# Altium integrated library GWLIB.IntLib: 40 symbols
Pins are listed as number, name and electrical type; pins without a type are passive.

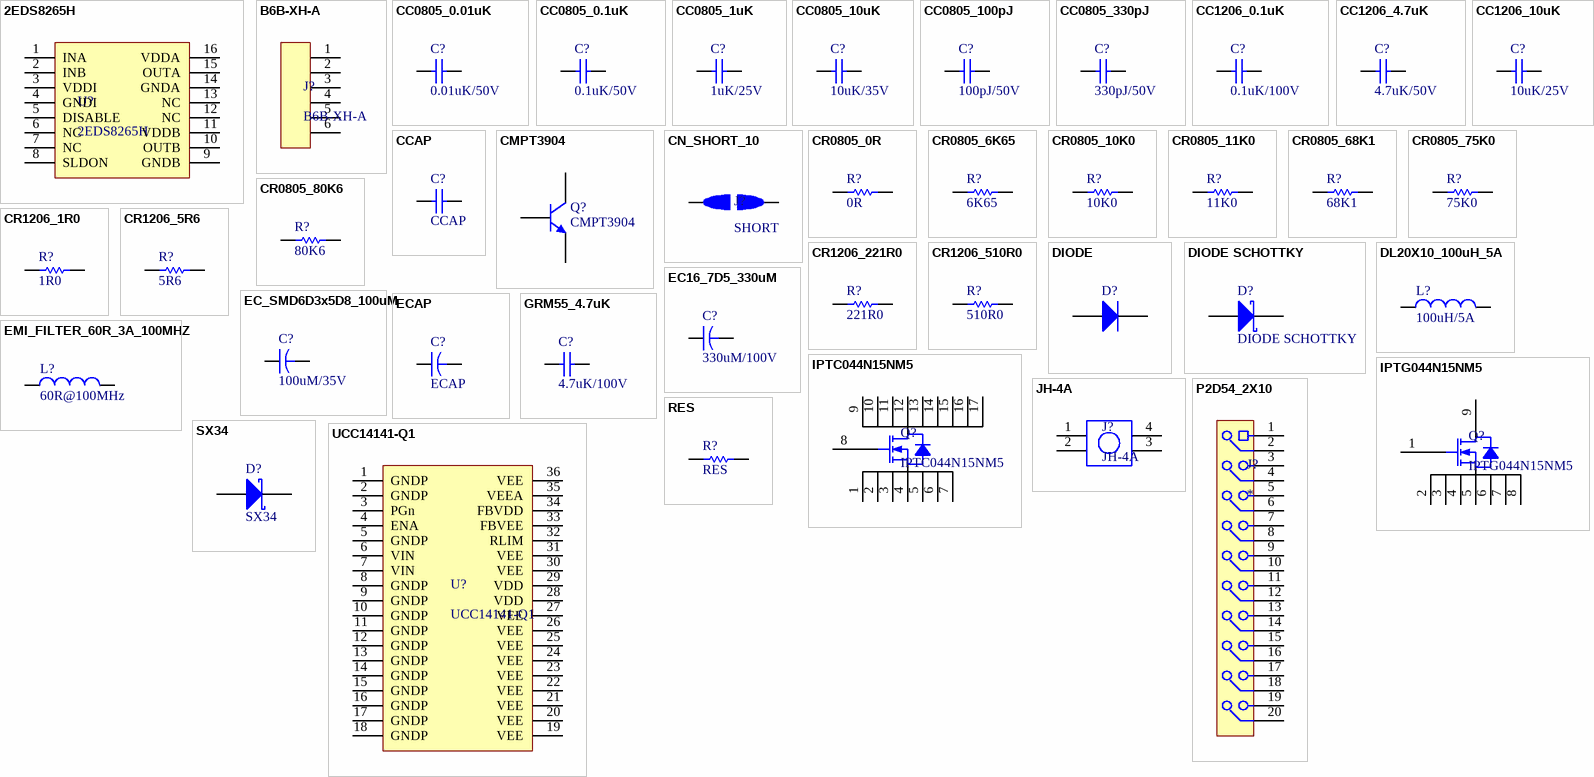
[diagram p0: symbols 2EDS8265H to UCC14141-Q1]

## 2EDS8265H
designator U?
Isolated Gate Driver
footprint PG_DSO_16_30 (SOIC, 16-Leads, Body 10.30x7.50mm, Pitch 1.27mm, IPC Medium Density)
pins: 1 INA, 2 INB, 3 VDDI, 4 GNDI, 5 DISABLE, 6 NC, 7 NC, 8 SLDON, 9 GNDB, 10 OUTB, 11 VDDB, 12 NC, 13 NC, 14 GNDA, 15 OUTA, 16 VDDA

## B6B-XH-A
designator J?
Connector; PART_NUMBER: 40WA-B6BXHA01
footprint B6B-XH-A_6pins
pins: 1, 2, 3, 4, 5, 6

## CC0805_0.01uK
designator C?, comment 0.01uK/50V
Capacitor; PART_NUMBER: 22E5-50103K01
footprint CC0805
pins: 1, 2

## CC0805_0.1uK
designator C?, comment 0.1uK/50V
Capacitor; PART_NUMBER: 22E5-50104K01
footprint CC0805
pins: 1, 2

## CC0805_1uK
designator C?, comment 1uK/25V
Capacitor; PART_NUMBER: 22E5-25105K01
footprint CC0805
pins: 1, 2

## CC0805_10uK
designator C?, comment 10uK/35V
Capacitor; PART_NUMBER: 22E5-35106K01
footprint CC0805
pins: 1, 2

## CC0805_100pJ
designator C?, comment 100pJ/50V
Capacitor; PART_NUMBER: 22E5-50101J01
footprint CC0805
pins: 1, 2

## CC0805_330pJ
designator C?, comment 330pJ/50V
Capacitor; PART_NUMBER: 22E5-50331J01
footprint CC0805
pins: 1, 2

## CC1206_0.1uK
designator C?, comment 0.1uK/100V
Capacitor; PART_NUMBER: 22E6-1A104K01
footprint CC1206 (Chip Capacitor, Body 3.2x1.6mm, IPC High Density)
pins: 1, 2

## CC1206_4.7uK
designator C?, comment 4.7uK/50V
Capacitor; PART_NUMBER: 22E6-50475K01
footprint CC1206 (Chip Capacitor, Body 3.2x1.6mm, IPC High Density)
pins: 1, 2

## CC1206_10uK
designator C?, comment 10uK/25V
Capacitor; PART_NUMBER: 22E6-25106K11
footprint CC1206 (Chip Capacitor, Body 3.2x1.6mm, IPC High Density)
pins: 1, 2

## CCAP
designator C?
Capacitor
footprint CC0805
footprint CC1206 (Chip Capacitor, Body 3.2x1.6mm, IPC High Density)
pins: 1, 2

## CMPT3904
designator Q?
NPN; PART_NUMBER: 2637-3904G0T1
footprint SOT23 (SOT23, 3-Leads, Body 2.90x2.45mm, Pitch 0.95mm, IPC Medium Density)
pins: 1 E, 2 B, 3 C

## CN_SHORT_10
designator J?, comment SHORT
simulation model INDUCTOR (Inductor)
signal-integrity model Inductor
footprint CN_SHORT
pins: 1, 2

## CR0805_0R
designator R?, comment 0R
R Chip 1/8W, 0RJ, RC0805; PART_NUMBER: 20C1-0000J221
footprint CR0805
pins: 1, 2

## CR0805_6K65
designator R?, comment 6K65
R Chip 1/8W, 6.65kF, RC0805; PART_NUMBER: 20C1-6651F221
footprint CR0805
pins: 1, 2

## CR0805_10K0
designator R?, comment 10K0
R Chip 1/8W, 10kF, RC0805; PART_NUMBER: 20C1-1002F221
footprint CR0805
pins: 1, 2

## CR0805_11K0
designator R?, comment 11K0
R Chip 1/8W, 11kF, RC0805; PART_NUMBER: 20C1-1102F221
footprint CR0805
pins: 1, 2

## CR0805_68K1
designator R?, comment 68K1
R Chip 1/8W, 68.1kF, RC0805; PART_NUMBER: 20C1-6812F221
footprint CR0805
pins: 1, 2

## CR0805_75K0
designator R?, comment 75K0
R Chip 1/8W, 75kF, RC0805; PART_NUMBER: 20C1-7502F221
footprint CR0805
pins: 1, 2

## CR0805_80K6
designator R?, comment 80K6
R Chip 1/8W, 80.6kF, RC0805; PART_NUMBER: 20C1-8062F221
footprint CR0805
pins: 1, 2

## CR1206_1R0
designator R?, comment 1R0
Resistor; PART_NUMBER: 20C2-100CF231
footprint CR1206 (Chip Capacitor, Body 3.2x1.6mm, IPC High Density)
pins: 1, 2

## CR1206_5R6
designator R?, comment 5R6
Resistor; PART_NUMBER: 20C2-56BDJ231
footprint CR1206 (Chip Capacitor, Body 3.2x1.6mm, IPC High Density)
pins: 1, 2

## CR1206_221R0
designator R?, comment 221R0
Resistor; PART_NUMBER: 20C2_2210F231
footprint CR1206 (Chip Capacitor, Body 3.2x1.6mm, IPC High Density)
pins: 1, 2

## CR1206_510R0
designator R?, comment 510R0
Resistor; PART_NUMBER: 20C2-51B1J231
footprint CR1206 (Chip Capacitor, Body 3.2x1.6mm, IPC High Density)
pins: 1, 2

## DIODE
designator D?
pins: 1 A, 2 K

## DIODE SCHOTTKY
designator D?
footprint SMA
pins: 1 K, 2 A

## DL20X10_100uH_5A
designator L?, comment 100uH/5A
Inductor
simulation model INDUCTOR (Inductor)
signal-integrity model Inductor
footprint DL20X10
pins: 1, 2

## EC16_7D5_330uM
designator C?, comment 330uM/100V
Capacitor; PART_NUMBER: 2251-1A337M31
footprint CE16_7D5
pins: 1, 2

## EC_SMD6D3x5D8_100uM
designator C?, comment 100uM/35V
Capacitor; PART_NUMBER: 224D-35107M01
footprint CE_SMD6D3x5D8
pins: 1, 2

## ECAP
designator C?
Capacitor
pins: 1, 2

## EMI_FILTER_60R_3A_100MHZ
designator L?, comment 60R@100MHz
Inductor; PART_NUMBER: 4694-600D0101
footprint CL0805
pins: 1, 2

## GRM55_4.7uK
designator C?, comment 4.7uK/100V
Capacitor; PART_NUMBER: 22E9-1A475K01
footprint GRM55
pins: 1, 2

## IPTC044N15NM5
designator Q?
Mosfet
footprint PG_HDSOP_16 (SOP, 16-Leads, Body 9.90x10.15mm, Pitch 1.20mm, Thermal Pad 10.20x7.00mm, IPC Medium Density)
pins: 1 S, 2 S, 3 S, 4 S, 5 S, 6 S, 7 S, 8 G, 9 D , 10 D , 11 D , 12 D , 13 D , 14 D , 15 D , 16 D , 17 D 

## IPTG044N15NM5
designator Q?
Mosfet
footprint PG_HSOG_8 (SOP, 16-Leads, Body 9.90x10.15mm, Pitch 1.20mm, Thermal Pad 10.20x7.00mm, IPC Medium Density)
pins: 1 G, 2 S, 3 S, 4 S, 5 S, 6 S, 7 S, 8 S, 9 D 

## JH-4A
designator J?
PCB Connector; PART_NUMBER: 62SW-080ST101
footprint JH-4A
pins: 1, 2, 3, 4

## P2D54_2X10
designator J?
footprint P2D54_2X10
pins: 1, 2, 3, 4, 5, 6, 7, 8, 9, 10, 11, 12, 13, 14, 15, 16, 17, 18, 19, 20

## RES
designator R?
Resistor
footprint CR0805
footprint CR1206 (Chip Capacitor, Body 3.2x1.6mm, IPC High Density)
pins: 1, 2

## SX34
designator D?
Schottky Diode 40V/3A; PART_NUMBER: 2512-34000201
footprint SMA
pins: 1 K, 2 A

## UCC14141-Q1
designator U?
Isolated DCDC Power
footprint DWN_SSOP36
pins: 1 GNDP, 2 GNDP, 3 PGn, 4 ENA, 5 GNDP, 6 VIN, 7 VIN, 8 GNDP, 9 GNDP, 10 GNDP, 11 GNDP, 12 GNDP, 13 GNDP, 14 GNDP, 15 GNDP, 16 GNDP, 17 GNDP, 18 GNDP, 19 VEE, 20 VEE, 21 VEE, 22 VEE, 23 VEE, 24 VEE, 25 VEE, 26 VEE, 27 VEE, 28 VDD, 29 VDD, 30 VEE, 31 VEE, 32 RLIM, 33 FBVEE, 34 FBVDD, 35 VEEA, 36 VEE